# Altium schematic symbol library lib_eps.SchLib: 181 symbols (part 2 of 2)
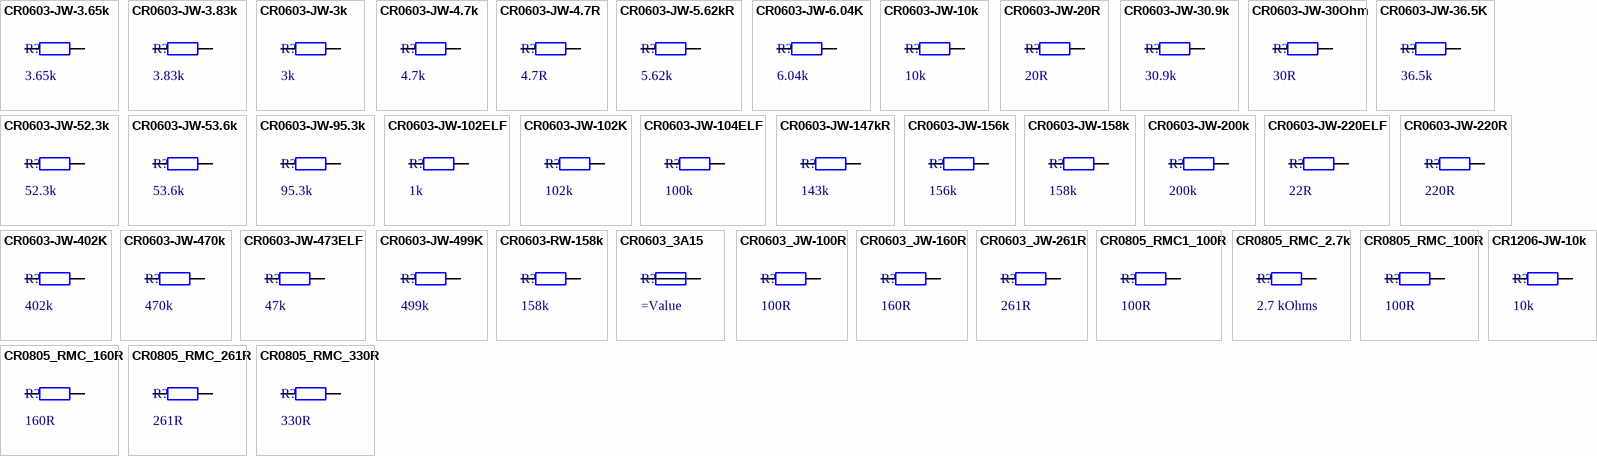
[diagram p7: symbols CR0603-JW-3.65k to CR1206-JW-10k]

## CR0805_RMC1_100R
designator R?, comment 100R
RES 100 OHM 1% 1/8W 0805; Manufacturer: Stackpole Electronics Inc; Manufacturer Part Number: RMCF0805FT100R; Value: 100R; Tolarance: ±1%; Supplier 1: Digi-Key; Supplier Part Number 1: RMCF0805FT100RCT-ND
footprint C0805_IPC_HD (Chip Capacitor, 2-Leads, Body 2,00x1,25mm, IPC High Density)
footprint C0805_IPC_MD (Chip Capacitor, 2-Leads, Body 2,00x1,25mm, IPC Medium Density)
footprint R0805_IPC_MD (Chip Resistor, 2-Leads, Body 2,00x1,25mm, IPC Medium Density)
pins: 1, 2

## CR0805_RMC_2.7k
designator R?, comment 2.7 kOhms
RES 2.7K OHM 1% 1/8W 0805; Manufacturer: Stackpole Electronics Inc; Manufacturer Part Number: RMCF0805FT2K70; Value: 2.7 kOhms; Tolarance: 1%; Supplier 1: Digi-Key; Supplier Part Number 1: RMCF0805FT2K70CT-ND
footprint C0805_IPC_HD (Chip Capacitor, 2-Leads, Body 2,00x1,25mm, IPC High Density)
footprint C0805_IPC_MD (Chip Capacitor, 2-Leads, Body 2,00x1,25mm, IPC Medium Density)
pins: 1, 2

## CR0805_RMC_100R
designator R?, comment 100R
RES SMD 100 OHM 5% 1/8W 0805; Manufacturer: Bourns Inc.; Manufacturer Part Number: CR0805-JW-101ELF; Value: 100R; Tolarance: ±5%; Supplier 1: Digi-Key; Supplier Part Number 1: CR0805-JW-101ELFCT-ND
footprint C0805_IPC_HD (Chip Capacitor, 2-Leads, Body 2,00x1,25mm, IPC High Density)
footprint C0805_IPC_MD (Chip Capacitor, 2-Leads, Body 2,00x1,25mm, IPC Medium Density)
pins: 1, 2

## CR0805_RMC_160R
designator R?, comment 160R
RES SMD 160 OHM 1% 1/8W 0805; Manufacturer: Rohm Semiconductor; Manufacturer Part Number: MCR10ERTF1600; Value: 160R; Tolarance: 1%; Supplier 1: Digi-Key; Supplier Part Number 1: RHM160CHCT-ND
footprint C0805_IPC_HD (Chip Capacitor, 2-Leads, Body 2,00x1,25mm, IPC High Density)
footprint C0805_IPC_MD (Chip Capacitor, 2-Leads, Body 2,00x1,25mm, IPC Medium Density)
pins: 1, 2

## CR0805_RMC_261R
designator R?, comment 261R
RES SMD 261 OHM 1% 1/8W 0805; Manufacturer: Rohm Semiconductor; Manufacturer Part Number: MCR10ERTF2610; Value: 261R; Tolarance: 1%; Supplier 1: Digi-Key; Supplier Part Number 1: RHM261CHCT-ND
footprint C0805_IPC_HD (Chip Capacitor, 2-Leads, Body 2,00x1,25mm, IPC High Density)
footprint C0805_IPC_MD (Chip Capacitor, 2-Leads, Body 2,00x1,25mm, IPC Medium Density)
pins: 1, 2

## CR0805_RMC_330R
designator R?, comment 330R
RES 330 OHM 1% 1/8W 0805; Manufacturer: Stackpole Electronics Inc; Manufacturer Part Number: RMCF0805FT330R; Value: 330R; Tolarance: 1%; Supplier 1: Digi-Key; Supplier Part Number 1: RMCF0805FT330RCT-ND
footprint C0805_IPC_HD (Chip Capacitor, 2-Leads, Body 2,00x1,25mm, IPC High Density)
footprint C0805_IPC_MD (Chip Capacitor, 2-Leads, Body 2,00x1,25mm, IPC Medium Density)
pins: 1, 2

## CR1206-JW-10k
designator R?, comment 10k
RES SMD 10K OHM 5% 1/4W 1206; Manufacturer: Bourns Inc.; Manufacturer Part Number: CR1206-JW-103ELF; Value: 10k; Tolarance: ±5%; Supplier 1: Digi-Key; Supplier Part Number 1: CR1206-JW-103ELFCT-ND
footprint C1206_IPC_HD (Chip Capacitor, 2-Leads, Body 3,20x1,60mm, IPC High Density)
footprint C1206_IPC_MD (Chip Capacitor, 2-Leads, Body 3,20x1,60mm, IPC Medium Density)
pins: 1, 2

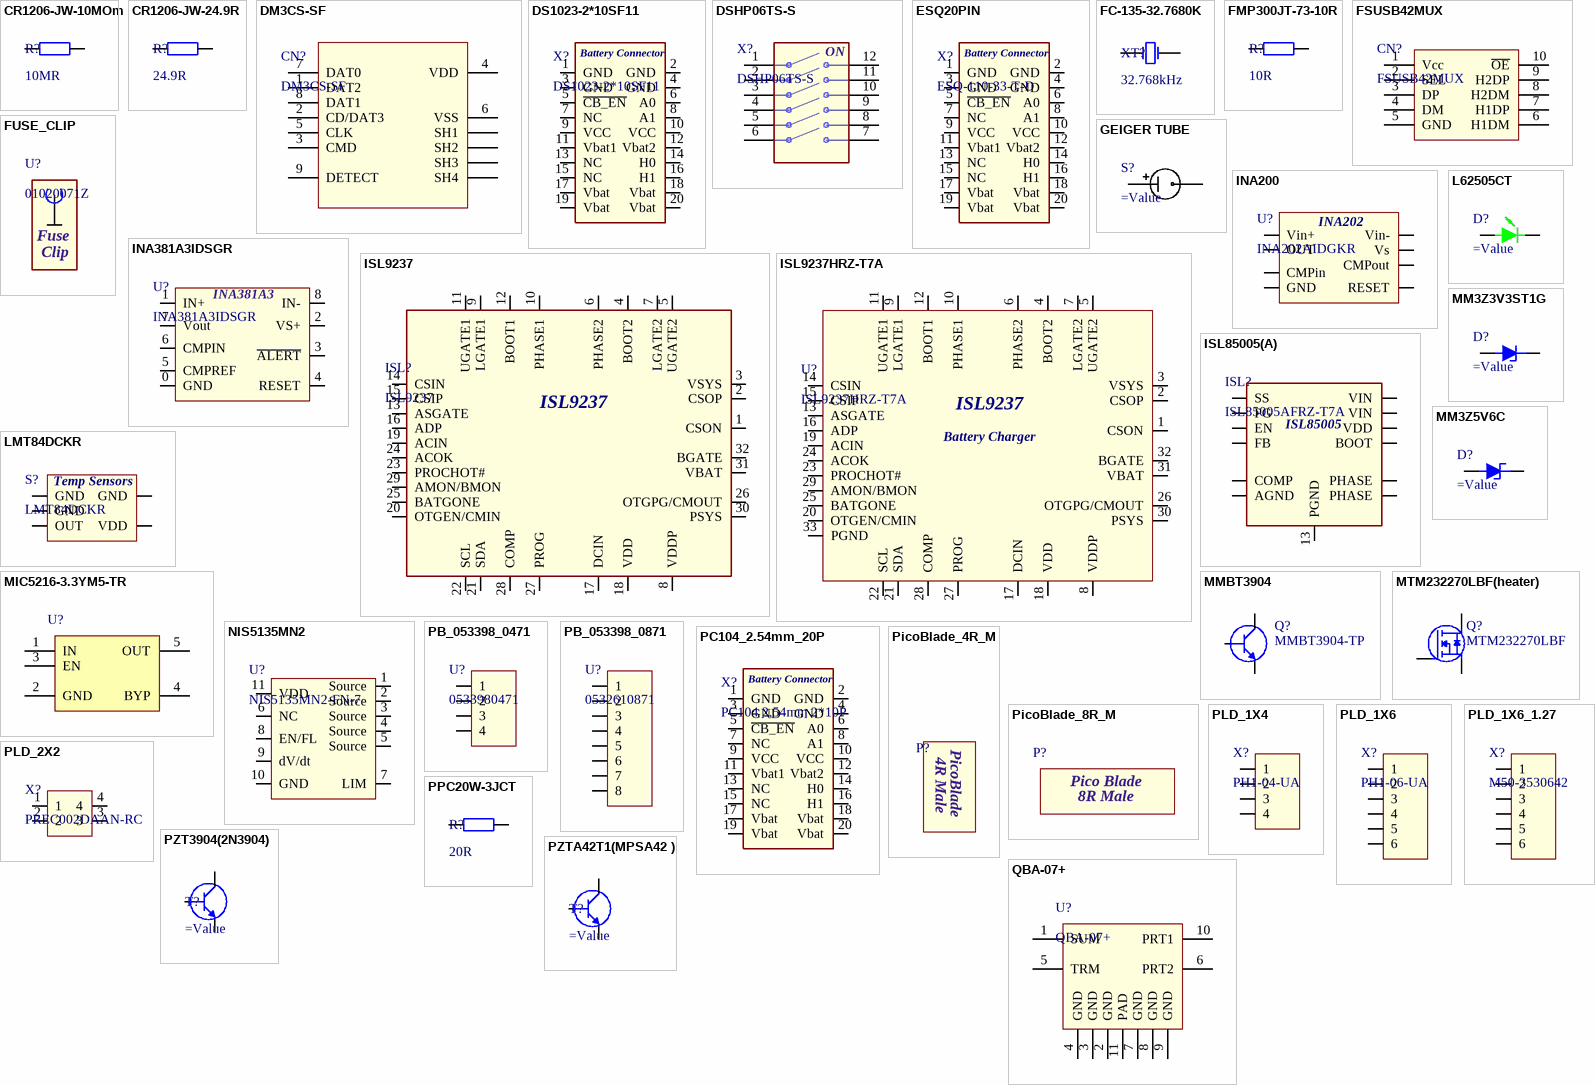
[diagram p4: symbols CR1206-JW-10MOm to QBA-07+]

## CR1206-JW-10MOm
designator R?, comment 10MR
RES SMD 10M OHM 5% 1/4W 1206; Manufacturer: Bourns Inc.; Manufacturer Part Number: CR1206-JW-106ELF; Value: 10MR; Tolarance: ±5%; Supplier 1: Digi-Key; Supplier Part Number 1: CR1206-JW-106ELFCT-ND
footprint C1206_IPC_HD (Chip Capacitor, 2-Leads, Body 3,20x1,60mm, IPC High Density)
footprint C1206_IPC_MD (Chip Capacitor, 2-Leads, Body 3,20x1,60mm, IPC Medium Density)
pins: 1, 2

## CR1206-JW-24.9R
designator R?, comment 24.9R
RES SMD 24.9 OHM 1% 1/4W 1206; Manufacturer: Rohm Semiconductor; Manufacturer Part Number: MCR18ERTF24R9; Value: 24.9R; Tolarance: ±1%; Supplier 1: Digi-Key; Supplier Part Number 1: RHM24.9CJCT-ND
footprint C1206_IPC_HD (Chip Capacitor, 2-Leads, Body 3,20x1,60mm, IPC High Density)
pins: 1, 2

## DM3CS-SF
designator CN?
CONN MICRO SD CARD HINGED TYPE; Manufacturer: Hirose Electric Co Ltd; Manufacturer Part Number: DM3CS-SF; Supplier 1: Digi-Key; Supplier Part Number 1: HR1972CT-ND
footprint DM3CS-SF (CONN MICRO SD CARD HINGED TYPE)
pins: 1 DAT2, 2 CD/DAT3, 3 CMD, 4 VDD, 5 CLK, 6 VSS, 7 DAT0, 8 DAT1, 9 DETECT, SH1, SH2, SH3, SH4

## DS1023-2*10SF11
designator X?
20 Position Elevated Socket Connector  Through Hole; Manufacturer: CONNFLY Elec; Number of Positions: 20; Manufacturer Part Number: DS1023-2*10SF11; Supplier 1: lcsc.com; Supplier Part Number 1: C92266
footprint ESQ-110-33-T-D (CONN SOCKET 20POS 0.1 TIN PCB)
pins: 1 GND, 2 GND, 3 GND, 4 GND, 5 ~{CB_EN}, 6 A0, 7 NC, 8 A1, 9 VCC, 10 VCC, 11 Vbat1, 12 Vbat2, 13 NC, 14 H0, 15 NC, 16 H1, 17 Vbat, 18 Vbat, 19 Vbat, 20 Vbat
text: Battery Connector

## DSHP06TS-S
designator X?
SPST 6 1.27mm, Half Slide (Standard) Black SMD DIP Switches RoHS; Manufacturer: XKB Enterprise; Manufacturer Part Number: DSHP06TS-S; Supplier 1: lcsc.com; Supplier Part Number 1: C319048
footprint SOIC_SW_SOIC127P850X235-12N (SOIC, 12-Leads, Body 9,22x5,35mm, Pitch 1,27mm, IPC Medium Density)
pins: 1, 2, 3, 4, 5, 6, 7, 8, 9, 10, 11, 12
text: ON

## ESQ20PIN
designator X?, comment ESQ-110-33-T-D
20 Position Elevated Socket Connector  Through Hole; Manufacturer: Samtec Inc.; Number of Positions: 20; Manufacturer Part Number: ESQ-110-33-T-D; Supplier 1: Digi-Key; Supplier Part Number 1: SAM11098-ND
footprint ESQ-110-33-T-D (CONN SOCKET 20POS 0.1 TIN PCB)
pins: 1 GND, 2 GND, 3 GND, 4 GND, 5 ~{CB_EN}, 6 A0, 7 NC, 8 A1, 9 VCC, 10 VCC, 11 Vbat1, 12 Vbat2, 13 NC, 14 H0, 15 NC, 16 H1, 17 Vbat, 18 Vbat, 19 Vbat, 20 Vbat
text: Battery Connector

## FC-135-32.7680K
designator XT?, comment 32.768kHz
32.768kHz ±20ppm Crystal 12.5pF 70 kOhms 2-SMD, No Lead; Manufacturer: EPSON; Manufacturer Part Number: FC-135 32.7680KA-A5; Frequency: 32.768kHz; Tolarance: ±20ppm; Supplier 1: Digi-Key; Supplier Part Number 1: SER4103CT-ND
footprint FC-135R (FC-135 32.7680KA-A5.FC-135 32.7680KA-A5)
pins: 1 OSC1, 2 OSC2

## FMP300JT-73-10R
designator R?, comment 10R
RES 10 OHM 3W 5% AXIAL; Manufacturer: Yageo; Manufacturer Part Number: FMP300JT-73-10R; Value: 10R; Tolarance: ±5%; Supplier 1: Digi-Key; Supplier Part Number 1: 10AXCT-ND
footprint FMP300JT-73-10R (RES 10 OHM 3W 5% AXIAL)
pins: 1, 2

## FSUSB42MUX
designator CN?
IC USB SWITCH DPDT 10MSOP; Manufacturer: ON Semiconductor; Manufacturer Part Number: FSUSB42MUX; Supplier 1: Digi-Key; Supplier Part Number 1: FSUSB42MUXCT-ND
footprint MSOP-10 (TSSOP, 10-Leads, Body 3.00x3.00mm, Pitch 0.50mm, IPC High Density)
pins: 1 Vcc, 2 SEL, 3 DP, 4 DM, 5 GND, 6 H1DM, 7 H1DP, 8 H2DM, 9 H2DP, 10 ~{OE}

## FUSE_CLIP
designator U?, comment 01020071Z  (mechanical)
FUSE CLIP; Manufacturer: Littelfuse Inc.; Manufacturer Part Number: 01020071Z; Supplier 1: Digi-Key; Supplier Part Number 1: F3781-ND
text: Fuse; Clip

## GEIGER TUBE
designator S?
FUSE CLIP CARTRIDGE PCB (FOR GEIGER TUBE); Manufacturer: USSR; Manufacturer Part Number: SI-3BG; Supplier 1: Kharkiv; Supplier Part Number 1: SI-3BG
footprint SI-3BG (Geiger tube 400V)
footprint SBM-20 (Geiger tube 400V)
pins: 1, 2

## INA200
designator U?, comment INA202AIDGKR
IC CURRENT MONITOR 3.5% 8VSSOP; Manufacturer: Texas Instruments; Manufacturer Part Number: INA202AIDGKR; Supplier 1: Digi-Key; Supplier Part Number 1: 296-21333-1-ND
footprint SOIC127P600-INA200
footprint TSOP65P490X110-8N-(INA202) (TSOP, 8-Leads, Body 3,00x3,00mm, Pitch 0,65mm, IPC Medium Density)
pins: 1 Vs, 2 OUT, 3 CMPin, 4 GND, 5 RESET, 6 CMPout, 7 Vin-, 8 Vin+
text: INA202

## INA381A3IDSGR
designator U?
Current Sense Regulator High/Low-Side  8-WSON (2x2); Manufacturer: Texas Instruments; Manufacturer Part Number: INA381A3IDSGR; Supplier 1: Digi-Key; Supplier Part Number 1: 296-50476-1-ND
footprint SON127P600-8N(INA381)
pins: 0 GND, 1 IN+, 2 VS+, 3 ~{ALERT}, 4 RESET, 5 CMPREF, 6 CMPIN, 7 Vout, 8 IN-
text: INA381A3

## ISL9237
designator ISL?
Buck-Boost Narrow VDC Battery Charger with SMBus Interface
footprint QFN127P600-ISL9237
pins: 1 CSON, 2 CSOP, 3 VSYS, 4 BOOT2, 5 UGATE2, 6 PHASE2, 7 LGATE2, 8 VDDP, 9 LGATE1, 10 PHASE1, 11 UGATE1, 12 BOOT1, 13 ASGATE, 14 CSIN, 15 CSIP, 16 ADP, 17 DCIN, 18 VDD, 19 ACIN, 20 OTGEN/CMIN, 21 SDA, 22 SCL, 23 PROCHOT#, 24 ACOK, 25 BATGONE, 26 OTGPG/CMOUT, 27 PROG, 28 COMP, 29 AMON/BMON, 30 PSYS, 31 VBAT, 32 BGATE

## ISL9237HRZ-T7A
designator U?
Charger IC Lithium-Ion 32-QFN (4x4); Manufacturer: Renesas Electronics America Inc.; Manufacturer Part Number: ISL9237HRZ-T7A; Supplier 1: Digi-Key; Supplier Part Number 1: ISL9237HRZ-T7ACT-ND
footprint QFN127P600-ISL9237
pins: 1 CSON, 2 CSOP, 3 VSYS, 4 BOOT2, 5 UGATE2, 6 PHASE2, 7 LGATE2, 8 VDDP, 9 LGATE1, 10 PHASE1, 11 UGATE1, 12 BOOT1, 13 ASGATE, 14 CSIN, 15 CSIP, 16 ADP, 17 DCIN, 18 VDD, 19 ACIN, 20 OTGEN/CMIN, 21 SDA, 22 SCL, 23 PROCHOT#, 24 ACOK, 25 BATGONE, 26 OTGPG/CMOUT, 27 PROG, 28 COMP, 29 AMON/BMON, 30 PSYS, 31 VBAT, 32 BGATE, 33 PGND
text: ISL9237; Battery Charger

## ISL85005(A)
designator ISL?, comment ISL85005AFRZ-T7A
Buck Switching Regulator IC Positive Adjustable 5V; Manufacturer: Renesas Electronics America Inc.; Manufacturer Part Number: ISL85005AFRZ-T7A; Supplier 1: Digi-Key; Supplier Part Number 1: ISL85005AFRZ-T7ACT-ND
footprint QFN127P600_ISL85005
pins: 1 SS, 2 PG, 3 EN, 4 FB, 5 COMP, 6 AGND, 7 PHASE, 8 PHASE, 9 VIN, 10 VIN, 11 VDD, 12 BOOT, 13 PGND
text: ISL85005

## L62505CT
designator D?
Green  LED Indication - Discrete 2.1V 0805 (ISL9237); Manufacturer: Visual Communications Company - VCC; Manufacturer Part Number: CMD17-21VGD/TR8; Current - Test: 20mA; Voltage - Forward (Vf) (Typ): 2.1V; Supplier 1: Digi-Key; Supplier Part Number 1: L62505CT-ND
footprint C0805_LED (Chip Capacitor, 2-Leads, Body 2,00x1,25mm, IPC Medium Density)
pins: 1 A, 2 K

## LMT84DCKR
designator S?
Temperature Sensor Analog, Local -50°C ~ 150°C 5.5mV/°C SC-70-5; Manufacturer: Texas Instruments; Manufacturer Part Number: LMT84DCKR; Supplier 1: Digi-Key; Supplier Part Number 1: 296-38163-1-ND
footprint LMT84DCKR_SOT65P210X110-5N (SOT23, 5-Leads, Body 2,00x2,10mm, Pitch 0,65mm, IPC Medium Density)
pins: 1 GND, 2 GND, 3 OUT, 4 VDD, 5 GND
text: Temp Sensors

## MIC5216-3.3YM5-TR
designator U?  (value not drawn)
IC REG LINEAR 3.3V 500MA SOT23-5; Manufacturer: Microchip Technology; Manufacturer Part Number: MIC5216-3.3YM5-TR; Supplier 1: Digi-Key; Supplier Part Number 1: 576-2756-1-ND
footprint SOT23-5_(MT) (SOT23, 5-Leads, Body 2,90x2,80mm, Pitch 0,95mm, IPC Medium Density)
pins: 1 IN, 2 GND, 3 EN, 4 BYP, 5 OUT

## MM3Z3V3ST1G
designator D?
Zener Diode 3.3V 300mW ±3% Surface Mount SOD-323; Manufacturer: ON Semiconductor; Manufacturer Part Number: MM3Z3V3ST1G; Voltage - Zener (Nom) (Vz): 3V3; Reverse Recovery Time (trr): 250ns; Supplier 1: Digi-Key; Supplier Part Number 1: MM3Z3V3ST1GOSCT-ND
footprint MM3Z5V6C _DIOM1713X10N (Molded Diode, 2-Leads, Body 1,70x1,30mm, IPC Medium Density)
pins: 1, 2

## MM3Z5V6C
designator D?
DIODE ZENER 5.6V 200MW SOD323F; Manufacturer: ON Semiconductor; Manufacturer Part Number: MM3Z5V6C; Current - Reverse Leakage @ Vr: 900nA; Voltage - Zener (Nom) (Vz): 5.6V; Supplier 1: Digi-Key; Supplier Part Number 1: MM3Z5V6CCT-ND
footprint MM3Z5V6C _DIOM1713X10N (Molded Diode, 2-Leads, Body 1,70x1,30mm, IPC Medium Density)
pins: 1, 2

## MMBT3904
designator Q?, comment MMBT3904-TP
NPN General Purpose Transistor; Manufacturer: Micro Commercial Co; Manufacturer Part Number: MMBT3904-TP; Supplier 1: Digi-Key; Supplier Part Number 1: MMBT3904TPMSCT-ND
footprint SOT23_MMBT3904 (SOT23, 3-Leads, Body 2,92x2,37mm, Pitch 1,00mm, IPC Medium Density)
pins: 1 B, 2 E, 3 C

## MTM232270LBF(heater)
designator Q?, comment MTM232270LBF
N-Channel 20V 2A (Ta) 500mW (Ta) Surface Mount SMini3-G1-B; Manufacturer: Panasonic Electronic Components; Manufacturer Part Number: MTM232270LBF; Supplier 1: Digi-Key; Supplier Part Number 1: MTM232270LBFCT-ND
footprint MTM232270LBF_SOT65P210X100-3N (SOT23, 3-Leads, Body 2,00x2,10mm, Pitch 0,65mm, IPC Medium Density)
pins: 1 G, 2 S, 3 D

## NIS5135MN2
designator U?, comment NIS5135MN2-FN-7
Electronic Fuse Regulator High-Side 3.6A U-DFN3030-10; Manufacturer: Diodes Incorporated; Manufacturer Part Number: NIS5135MN2-FN-7; Supplier 1: Digi-Key; Supplier Part Number 1: NIS5135MN2-FN-7DICT-ND
footprint NIS5135_SON127P600-8N
pins: 1 Source, 2 Source, 3 Source, 4 Source, 5 Source, 6 NC, 7 LIM, 8 EN/FL, 9 dV/dt, 10 GND, 11 VDD

## PB_053398_0471
designator U?, comment 0533980471
Connector Header Surface Mount 4 position 0.049" (1.25mm); Manufacturer: Molex; Manufacturer Part Number: 0533980471; Supplier 1: Digi-Key; Supplier Part Number 1: WM7608TR-ND
footprint PB_53261-0471
footprint PB_53261-0471_Right
pins: 1, 2, 3, 4

## PB_053398_0871
designator U?, comment 0532610871
Connector Header Surface Mount, Right Angle 8 position 0.049" (1.25mm); Manufacturer: Molex; Manufacturer Part Number: 0532610871; Supplier 1: Digi-Key; Supplier Part Number 1: WM7626CT-ND
footprint PB_53398-0871 (Headers & Wire Housings 1.25MM HDR 8 CKT Right-Angle)
pins: 1, 2, 3, 4, 5, 6, 7, 8

## PC104_2.54mm_20P
designator X?, comment PC104 2,54mm 2*10P
20 Position Elevated Socket Connector  Through Hole; Manufacturer: China; Number of Positions: 20; Manufacturer Part Number: PC104 2,54mm 2*10P; Supplier 1: Aliexpress.com; Supplier Part Number 1: PC104 2,54mm 2*10P
footprint ESQ-110-33-T-D (CONN SOCKET 20POS 0.1 TIN PCB)
footprint PC104_2.54MM_20P (CONN SOCKET 20POS 0.1 TIN PCB)
pins: 1 GND, 2 GND, 3 GND, 4 GND, 5 ~{CB_EN}, 6 A0, 7 NC, 8 A1, 9 VCC, 10 VCC, 11 Vbat1, 12 Vbat2, 13 NC, 14 H0, 15 NC, 16 H1, 17 Vbat, 18 Vbat, 19 Vbat, 20 Vbat
text: Battery Connector

## PicoBlade_4R_M
designator P?, comment PicoBlade_4R_MALE  (value not drawn)  (mechanical)
MALE Connector Header Surface Mount 4 position 0.049" (1.25mm); Manufacturer: China; Manufacturer Part Number: PicoBlade_4R_MALE; Supplier 1: Aliexpress; Supplier Part Number 1: PicoBlade_4R_M
text: PicoBlade; 4R Male

## PicoBlade_8R_M
designator P?, comment PicoBlade_8R_MALE  (value not drawn)  (mechanical)
MALE Connector Header Surface Mount, Right Angle 8 position 0.049" (1.25mm); Manufacturer: China; Manufacturer Part Number: PicoBlade_8R_MALE; Supplier 1: Aliexpress; Supplier Part Number 1: PicoBlade_8R_M
text: Pico Blade; 8R Male

## PLD_1X4
designator X?, comment PH1-04-UA
PIN HEADER 4P 2.54MM PITCH PLUG; Manufacturer: Adam Tech; Number of Positions: 4; Manufacturer Part Number: PH1-04-UA; Supplier 1: Digi-Key; Supplier Part Number 1: 2057-PH1-04-UA-ND
footprint PLS_1X4 (CONN SOCKET 20POS 0.1 TIN PCB)
pins: 1, 2, 3, 4

## PLD_1X6
designator X?, comment PH1-06-UA
PIN HEADER 6P 2.54MM PITCH PLUG; Manufacturer: Adam Tech; Number of Positions: 6; Manufacturer Part Number: PH1-06-UA; Supplier 1: Digi-Key; Supplier Part Number 1: 2057-PH1-06-UA-ND
footprint PLS_1X6 (CONN SOCKET 20POS 0.1 TIN PCB)
pins: 1, 2, 3, 4, 5, 6

## PLD_1X6_1.27
designator X?, comment M50-3530642
CONN HEADER VERT 6POS 1.27MM; Manufacturer: Harwin Inc.; Number of Positions: 6; Manufacturer Part Number: M50-3530642; Supplier 1: Digi-Key; Supplier Part Number 1: 952-3602-ND
footprint PLS_1X6_1.27 (3.10mm, 4.60mm, 5.40mm)
pins: 1, 2, 3, 4, 5, 6

## PLD_2X2
designator X?, comment PREC002DAAN-RC
Connector Header Through Hole 4 position 0.100" (2.54mm); Manufacturer: Sullins Connector Solutions; Number of Positions: 4; Manufacturer Part Number: PREC002DAAN-RC; Supplier 1: Digi-Key; Supplier Part Number 1: S2012EC-02-ND
footprint PLD_2X2 (CONN SOCKET 20POS 0.1 TIN PCB)
footprint GPLD_2X2 (CONN SOCKET 20POS 0.1 TIN PCB)
pins: 1, 2, 3, 4

## PPC20W-3JCT
designator R?, comment 20R
RES 20 OHM 3W 5% AXIAL; Manufacturer: Vishay BC Components; Manufacturer Part Number: PR03000202009JAC00; Value: 20R; Tolarance: ±5%; Supplier 1: Digi-Key; Supplier Part Number 1: PPC20W-3JCT-ND
footprint PPC20W-3JCT-ND (RES 20 OHM 3W 5% AXIAL)
pins: 1, 2

## PZT3904(2N3904)
designator T?
Bipolar (BJT) Transistor NPN 40V 200mA 300MHz 1.5W Surface Mount SOT-223; Manufacturer: ON Semiconductor; Manufacturer Part Number: PZT3904T1G; Current - Collector (Ic) (Max): 200mA; Voltage - Collector Emitter Breakdown (Max): 40V; Supplier 1: Digi-Key; Supplier Part Number 1: PZT3904T1GOSCT-ND
footprint PZT3904_SOT223
pins: 1 B, 2 C, 3 E

## PZTA42T1(MPSA42 )
designator T?
Bipolar (BJT) Transistor NPN 300V 500mA 50MHz 1.5W Surface Mount SOT-223; Manufacturer: ON Semiconductor; Manufacturer Part Number: PZTA42T1G; Current - Collector (Ic) (Max): 500mA; Voltage - Collector Emitter Breakdown (Max): 300V; Supplier 1: Digi-Key; Supplier Part Number 1: PZTA42T1GOSCT-ND
footprint PZTA42T1G_SOT230P (SOT223, 4-Leads, Body 6,50x7,00mm (avg), Pitch 2,30mm, IPC Medium Density)
pins: 1 B, 2 C, 3 E

## QBA-07+
designator U?
Power Splitter/Combiner 2 Way-90° 50Ω 340 to 680 MHz; Manufacturer: Mini-Circuits®; Manufacturer Part Number: QBA-07+; Supplier 1: *****; Supplier Part Number 1: *****
footprint QBA-07+
pins: 1 SUM, 2 GND, 3 GND, 4 GND, 5 TRM, 6 PRT2, 7 GND, 8 GND, 9 GND, 10 PRT1, 11 PAD

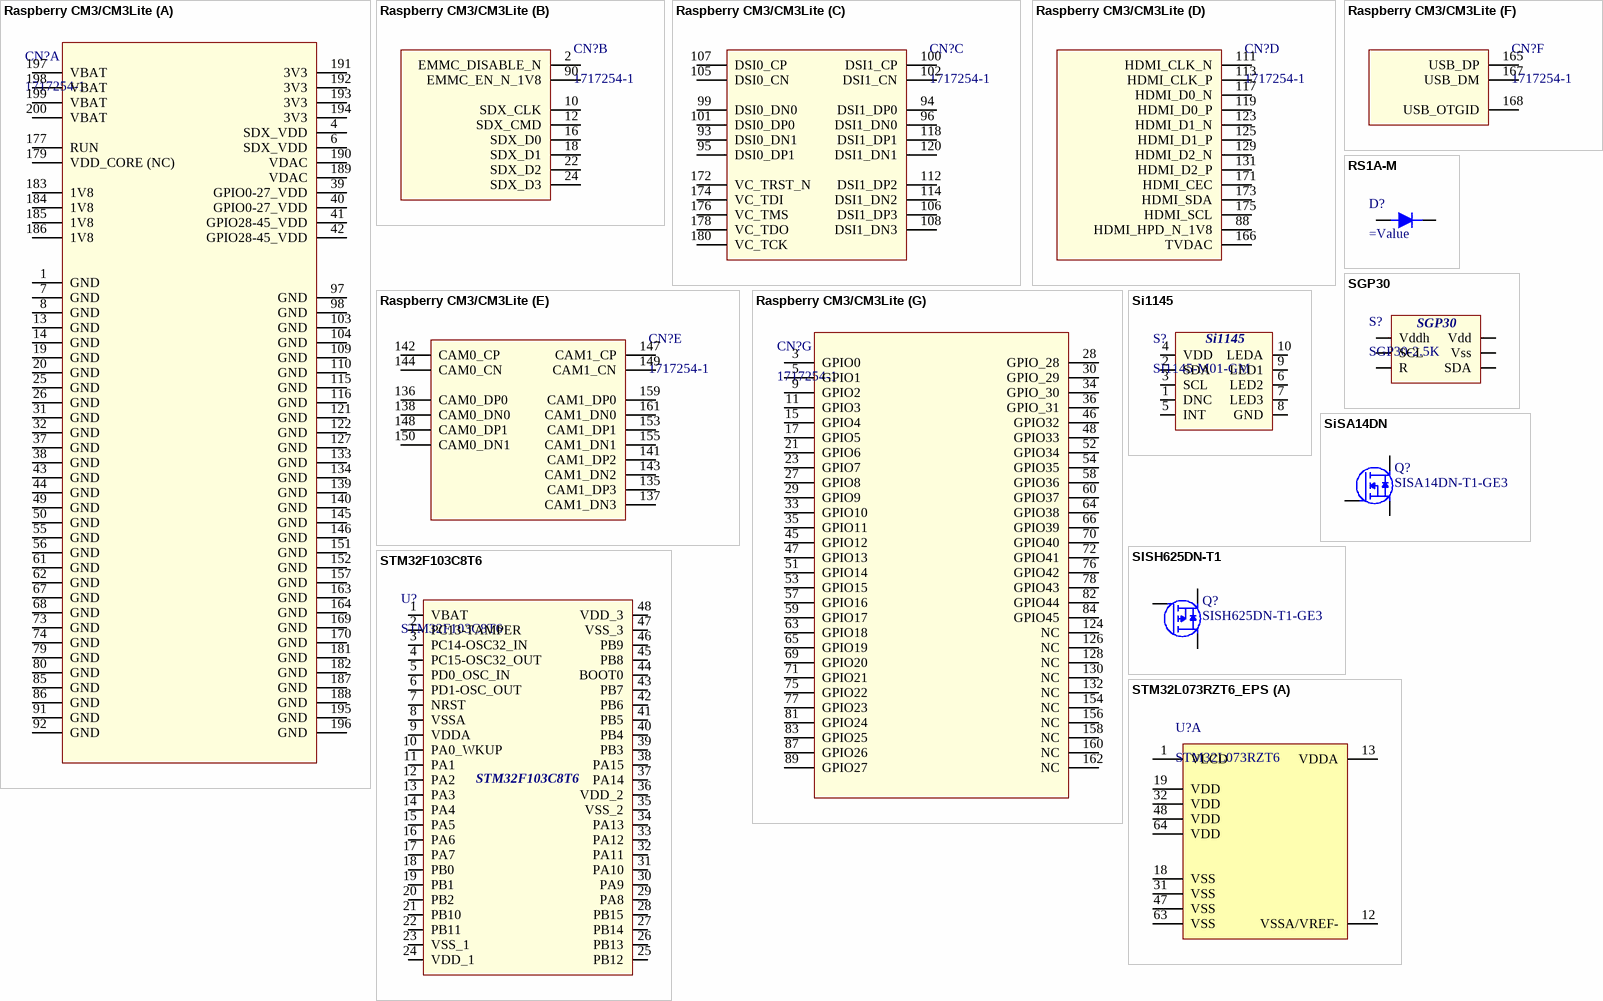
[diagram p5: symbols Raspberry CM3/CM3Lite to STM32L073RZT6_EPS]

## Raspberry CM3/CM3Lite
designator CN?, comment 1717254-1
CONN SKT SODIMM 200POS R/A SMD; Manufacturer: On Shore Technology Inc.; Manufacturer Part Number: 1717254-1; Supplier 1: Digi-Key; Supplier Part Number 1: A111047CT-ND
footprint 1717254-1 (CONN SKT SODIMM 200POS R/A SMD)
footprint 1717254-1 + CM3 (CONN SKT SODIMM 200POS R/A SMD)
part A pins: 1 GND, 4 SDX_VDD, 6 SDX_VDD, 7 GND, 8 GND, 13 GND, 14 GND, 19 GND, 20 GND, 25 GND, 26 GND, 31 GND, 32 GND, 37 GND, 38 GND, 39 GPIO0-27_VDD, 40 GPIO0-27_VDD, 41 GPIO28-45_VDD, 42 GPIO28-45_VDD, 43 GND, 44 GND, 49 GND, 50 GND, 55 GND, 56 GND, 61 GND, 62 GND, 67 GND, 68 GND, 73 GND, 74 GND, 79 GND, 80 GND, 85 GND, 86 GND, 91 GND, 92 GND, 97 GND, 98 GND, 103 GND, 104 GND, 109 GND, 110 GND, 115 GND, 116 GND, 121 GND, 122 GND, 127 GND, 133 GND, 134 GND, 139 GND, 140 GND, 145 GND, 146 GND, 151 GND, 152 GND, 157 GND, 163 GND, 164 GND, 169 GND, 170 GND, 177 RUN, 179 VDD_CORE (NC), 181 GND, 182 GND, 183 1V8, 184 1V8, 185 1V8, 186 1V8, 187 GND, 188 GND, 189 VDAC, 190 VDAC, 191 3V3, 192 3V3, 193 3V3, 194 3V3, 195 GND, 196 GND, 197 VBAT, 198 VBAT, 199 VBAT, 200 VBAT
part B pins: 2 EMMC_DISABLE_N, 10 SDX_CLK, 12 SDX_CMD, 16 SDX_D0, 18 SDX_D1, 22 SDX_D2, 24 SDX_D3, 90 EMMC_EN_N_1V8
part C pins: 93 DSI0_DN1, 94 DSI1_DP0, 95 DSI0_DP1, 96 DSI1_DN0, 99 DSI0_DN0, 100 DSI1_CP, 101 DSI0_DP0, 102 DSI1_CN, 105 DSI0_CN, 106 DSI1_DP3, 107 DSI0_CP, 108 DSI1_DN3, 112 DSI1_DP2, 114 DSI1_DN2, 118 DSI1_DP1, 120 DSI1_DN1, 172 VC_TRST_N, 174 VC_TDI, 176 VC_TMS, 178 VC_TDO, 180 VC_TCK
part D pins: 88 HDMI_HPD_N_1V8, 111 HDMI_CLK_N, 113 HDMI_CLK_P, 117 HDMI_D0_N, 119 HDMI_D0_P, 123 HDMI_D1_N, 125 HDMI_D1_P, 129 HDMI_D2_N, 131 HDMI_D2_P, 166 TVDAC, 171 HDMI_CEC, 173 HDMI_SDA, 175 HDMI_SCL
part E pins: 135 CAM1_DP3, 136 CAM0_DP0, 137 CAM1_DN3, 138 CAM0_DN0, 141 CAM1_DP2, 142 CAM0_CP, 143 CAM1_DN2, 144 CAM0_CN, 147 CAM1_CP, 148 CAM0_DP1, 149 CAM1_CN, 150 CAM0_DN1, 153 CAM1_DP1, 155 CAM1_DN1, 159 CAM1_DP0, 161 CAM1_DN0
part F pins: 165 USB_DP, 167 USB_DM, 168 USB_OTGID
part G pins: 3 GPIO0, 5 GPIO1, 9 GPIO2, 11 GPIO3, 15 GPIO4, 17 GPIO5, 21 GPIO6, 23 GPIO7, 27 GPIO8, 28 GPIO_28, 29 GPIO9, 30 GPIO_29, 33 GPIO10, 34 GPIO_30, 35 GPIO11, 36 GPIO_31, 45 GPIO12, 46 GPIO32, 47 GPIO13, 48 GPIO33, 51 GPIO14, 52 GPIO34, 53 GPIO15, 54 GPIO35, 57 GPIO16, 58 GPIO36, 59 GPIO17, 60 GPIO37, 63 GPIO18, 64 GPIO38, 65 GPIO19, 66 GPIO39, 69 GPIO20, 70 GPIO40, 71 GPIO21, 72 GPIO41, 75 GPIO22, 76 GPIO42, 77 GPIO23, 78 GPIO43, 81 GPIO24, 82 GPIO44, 83 GPIO25, 84 GPIO45, 87 GPIO26, 89 GPIO27, 124 NC, 126 NC, 128 NC, 130 NC, 132 NC, 154 NC, 156 NC, 158 NC, 160 NC, 162 NC

## RS1A-M
designator D?
DIODE GEN PURP 600V 1A SMA; Manufacturer: ON Semiconductor; Manufacturer Part Number: RS1J; Reverse Recovery Time (trr): 250ns; Voltage - DC Reverse (Vr) (Max): 600V; Supplier 1: Digi-Key; Supplier Part Number 1: RS1JFSCT-ND; Current - Average Rectified (Io): 1A
footprint RS1J-DFN (DFN, 2-Leads, Body 2,67x4,25mm, Pitch 3,76mm, IPC Medium Density)
pins: 1, 2

## SGP30
designator S?, comment SGP30-2.5K
AIR QUALITY GAS SENSOR FOR VOC'S; Manufacturer: Sensirion AG; Manufacturer Part Number: SGP30-2.5K; Supplier 1: Digi-Key; Supplier Part Number 1: 1649-1084-1-ND
footprint QFN0P245X245X90_(SGP30) (QFN, 6-Leads, Body 2,45x2,45mm, Pitch 0,00mm/0,80mm, Thermal Pad 1,25x1,70mm, IPC Medium Density)
pins: 1 Vdd, 2 Vss, 3 SDA, 4 R, 5 Vddh, 6 SCL

## Si1145
designator S?, comment SI1145-M01-GM
Optical Sensor Ambient, IR, Ultraviolet (UV) 850nm I²C 10-SMD Module, No Lead; Manufacturer: Silicon Labs; Manufacturer Part Number: SI1145-M01-GM; Supplier 1: Digi-Key; Supplier Part Number 1: 336-5135-ND
footprint Si1145 (Optical Sensor Ambient, IR, Ultraviolet (UV) 850nm I?C 10-SMD Module, No Lead)
pins: 1 DNC, 2 SDA, 3 SCL, 4 VDD, 5 INT, 6 LED2, 7 LED3, 8 GND, 9 LED1, 10 LEDA

## SiSA14DN
designator Q?, comment SISA14DN-T1-GE3
N-Channel 30V 20A (Tc) 3.57W (Ta), 26.5W (Tc) Surface Mount PowerPAK® 1212-8; Manufacturer: Vishay Siliconix; Manufacturer Part Number: SISA14DN-T1-GE3; Supplier 1: Digi-Key; Supplier Part Number 1: SISA14DN-T1-GE3CT-ND
footprint SISA14DN (PowerPAK® 1212-8  N-Channel 30V 20A)
pins: 1 S, 2 G, 3 D

## SISH625DN-T1
designator Q?, comment SISH625DN-T1-GE3
P-Channel 30V 17.3A (Ta), 35A (Tc) 3.7W (Ta), 52W (Tc) Surface Mount PowerPAK® 1212-8SH; Manufacturer: Vishay Siliconix; Manufacturer Part Number: SISH625DN-T1-GE3; Supplier 1: Digi-Key; Supplier Part Number 1: SISH625DN-T1-GE3CT-ND
footprint SISH625DN (Mount PowerPAK® 1212-8SH P-Channel 30V 17.3A)
pins: 1 S, 2 G, 3 D

## STM32F103C8T6
designator U?
ARM® Cortex®-M3 STM32F1 Microcontroller IC 32-Bit 72MHz 64KB (64K x 8) FLASH; Manufacturer: STMicroelectronics; SRAM: 20K x 8; Manufacturer Part Number: STM32F103C8T6; FLASH: 64KB (64K x 8); Supplier 1: Digi-Key; Supplier Part Number 1: 497-6063-ND
footprint STM32F103C8T6_TSQFP50P900X900 (TSQFP, 48-Leads, Body 7,00x7,00mm, Pitch 0,50mm, IPC Medium Density)
pins: 1 VBAT, 2 PC13-TAMPER, 3 PC14-OSC32_IN, 4 PC15-OSC32_OUT, 5 PD0_OSC_IN, 6 PD1-OSC_OUT, 7 NRST, 8 VSSA, 9 VDDA, 10 PA0_WKUP, 11 PA1, 12 PA2, 13 PA3, 14 PA4, 15 PA5, 16 PA6, 17 PA7, 18 PB0, 19 PB1, 20 PB2, 21 PB10, 22 PB11, 23 VSS_1, 24 VDD_1, 25 PB12, 26 PB13, 27 PB14, 28 PB15, 29 PA8, 30 PA9, 31 PA10, 32 PA11, 33 PA12, 34 PA13, 35 VSS_2, 36 VDD_2, 37 PA14, 38 PA15, 39 PB3, 40 PB4, 41 PB5, 42 PB6, 43 PB7, 44 BOOT0, 45 PB8, 46 PB9, 47 VSS_3, 48 VDD_3

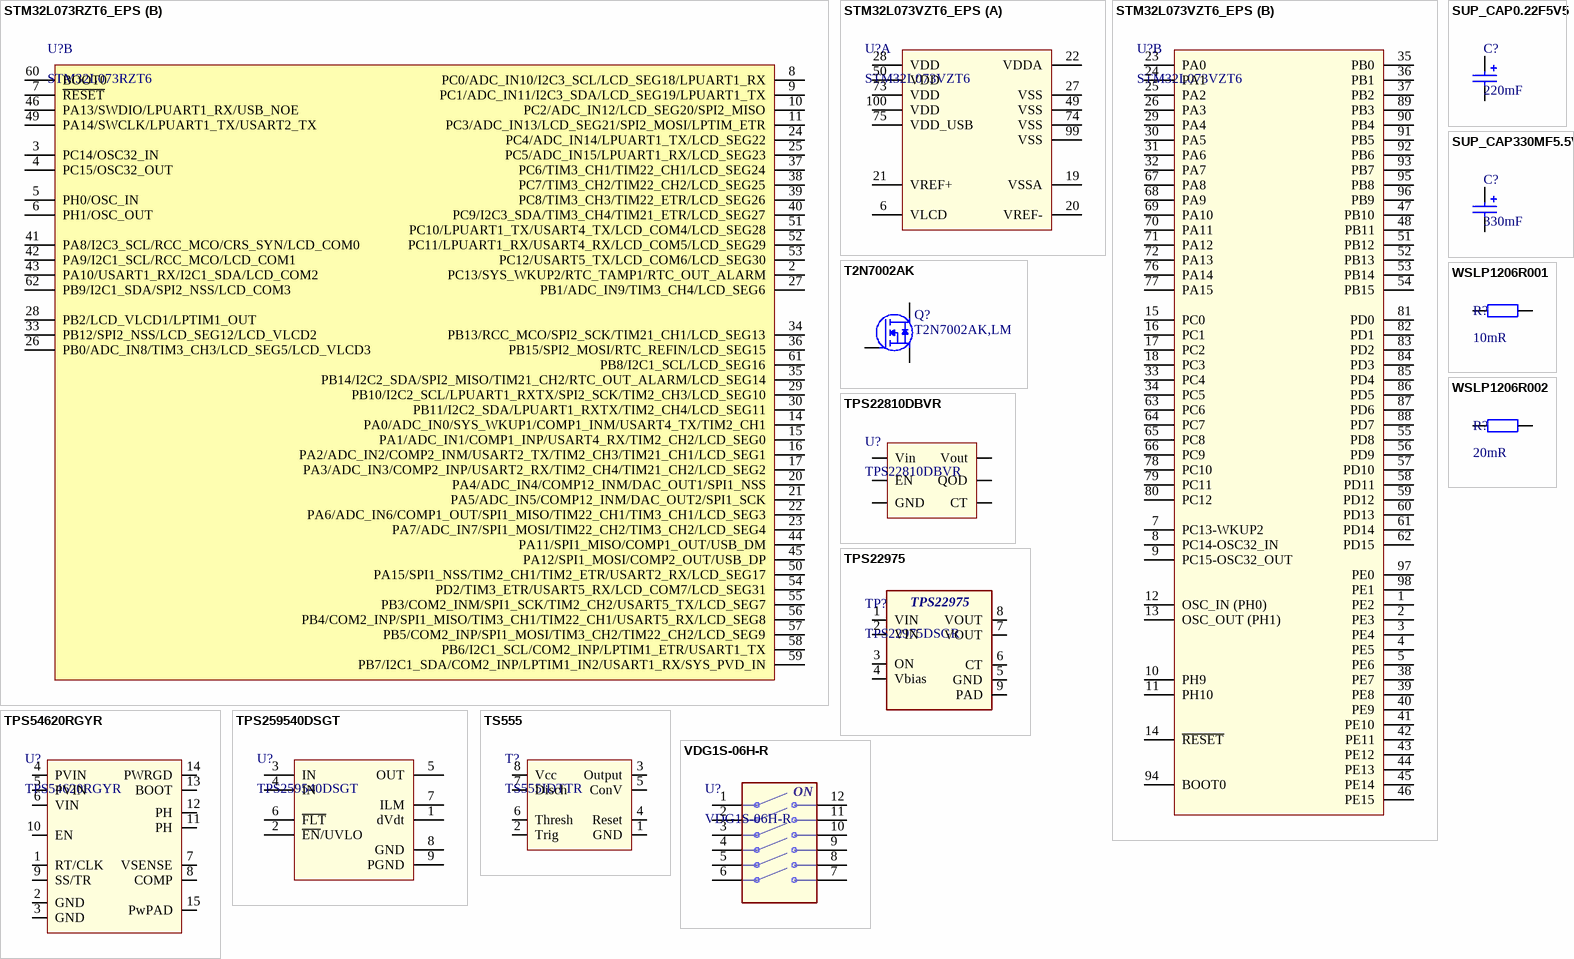
[diagram p6: symbols STM32L073RZT6_EPS to WSLP1206R002]

## STM32L073RZT6_EPS
designator U?, comment STM32L073RZT6
Ultra-low-power 32-bit MCU ARM®-based Cortex®-M0+; Manufacturer: ST; SRAM: 20KB; FLASH: 192KB; Manufacturer Part Number: STM32L073RZT6; Supplier 1: Digi-Key; Supplier Part Number 1: 497-16270-ND
footprint LQFP64_10X10MM (LQFP, 64-Leads, Body 10,00x10,00mm, Pitch 0,50mm, IPC Medium Density)
part A pins: 1 VLCD (power), 12 VSSA/VREF- (power), 13 VDDA (power), 18 VSS (power), 19 VDD (power), 31 VSS (power), 32 VDD (power), 47 VSS (power), 48 VDD (power), 63 VSS (power), 64 VDD (power)
part B pins: 2 PC13/SYS_WKUP2/RTC_TAMP1/RTC_OUT_ALARM, 3 PC14/OSC32_IN, 4 PC15/OSC32_OUT, 5 PH0/OSC_IN, 6 PH1/OSC_OUT, 7 ~{RESET}, 8 PC0/ADC_IN10/I2C3_SCL/LCD_SEG18/LPUART1_RX, 9 PC1/ADC_IN11/I2C3_SDA/LCD_SEG19/LPUART1_TX, 10 PC2/ADC_IN12/LCD_SEG20/SPI2_MISO, 11 PC3/ADC_IN13/LCD_SEG21/SPI2_MOSI/LPTIM_ETR, 14 PA0/ADC_IN0/SYS_WKUP1/COMP1_INM/USART4_TX/TIM2_CH1, 15 PA1/ADC_IN1/COMP1_INP/USART4_RX/TIM2_CH2/LCD_SEG0, 16 PA2/ADC_IN2/COMP2_INM/USART2_TX/TIM2_CH3/TIM21_CH1/LCD_SEG1, 17 PA3/ADC_IN3/COMP2_INP/USART2_RX/TIM2_CH4/TIM21_CH2/LCD_SEG2, 20 PA4/ADC_IN4/COMP12_INM/DAC_OUT1/SPI1_NSS, 21 PA5/ADC_IN5/COMP12_INM/DAC_OUT2/SPI1_SCK, 22 PA6/ADC_IN6/COMP1_OUT/SPI1_MISO/TIM22_CH1/TIM3_CH1/LCD_SEG3, 23 PA7/ADC_IN7/SPI1_MOSI/TIM22_CH2/TIM3_CH2/LCD_SEG4, 24 PC4/ADC_IN14/LPUART1_TX/LCD_SEG22, 25 PC5/ADC_IN15/LPUART1_RX/LCD_SEG23, 26 PB0/ADC_IN8/TIM3_CH3/LCD_SEG5/LCD_VLCD3, 27 PB1/ADC_IN9/TIM3_CH4/LCD_SEG6, 28 PB2/LCD_VLCD1/LPTIM1_OUT, 29 PB10/I2C2_SCL/LPUART1_RXTX/SPI2_SCK/TIM2_CH3/LCD_SEG10, 30 PB11/I2C2_SDA/LPUART1_RXTX/TIM2_CH4/LCD_SEG11, 33 PB12/SPI2_NSS/LCD_SEG12/LCD_VLCD2, 34 PB13/RCC_MCO/SPI2_SCK/TIM21_CH1/LCD_SEG13, 35 PB14/I2C2_SDA/SPI2_MISO/TIM21_CH2/RTC_OUT_ALARM/LCD_SEG14, 36 PB15/SPI2_MOSI/RTC_REFIN/LCD_SEG15, 37 PC6/TIM3_CH1/TIM22_CH1/LCD_SEG24, 38 PC7/TIM3_CH2/TIM22_CH2/LCD_SEG25, 39 PC8/TIM3_CH3/TIM22_ETR/LCD_SEG26, 40 PC9/I2C3_SDA/TIM3_CH4/TIM21_ETR/LCD_SEG27, 41 PA8/I2C3_SCL/RCC_MCO/CRS_SYN/LCD_COM0, 42 PA9/I2C1_SCL/RCC_MCO/LCD_COM1, 43 PA10/USART1_RX/I2C1_SDA/LCD_COM2, 44 PA11/SPI1_MISO/COMP1_OUT/USB_DM, 45 PA12/SPI1_MOSI/COMP2_OUT/USB_DP, 46 PA13/SWDIO/LPUART1_RX/USB_NOE, 49 PA14/SWCLK/LPUART1_TX/USART2_TX, 50 PA15/SPI1_NSS/TIM2_CH1/TIM2_ETR/USART2_RX/LCD_SEG17, 51 PC10/LPUART1_TX/USART4_TX/LCD_COM4/LCD_SEG28, 52 PC11/LPUART1_RX/USART4_RX/LCD_COM5/LCD_SEG29, 53 PC12/USART5_TX/LCD_COM6/LCD_SEG30, 54 PD2/TIM3_ETR/USART5_RX/LCD_COM7/LCD_SEG31, 55 PB3/COM2_INM/SPI1_SCK/TIM2_CH2/USART5_TX/LCD_SEG7, 56 PB4/COM2_INP/SPI1_MISO/TIM3_CH1/TIM22_CH1/USART5_RX/LCD_SEG8, 57 PB5/COM2_INP/SPI1_MOSI/TIM3_CH2/TIM22_CH2/LCD_SEG9, 58 PB6/I2C1_SCL/COM2_INP/LPTIM1_ETR/USART1_TX, 59 PB7/I2C1_SDA/COM2_INP/LPTIM1_IN2/USART1_RX/SYS_PVD_IN, 60 BOOT0, 61 PB8/I2C1_SCL/LCD_SEG16, 62 PB9/I2C1_SDA/SPI2_NSS/LCD_COM3

## STM32L073VZT6_EPS
designator U?, comment STM32L073VZT6
ARM® Cortex®-M0+ STM32L0 Microcontroller IC 32-Bit 32MHz 192KB (192K x 8) FLASH 100-LQFP (14x14); Manufacturer: STMicroelectronics; SRAM: 20KB; Manufacturer Part Number: STM32L073VZT6; FLASH: 192KB; Supplier 1: Digi-Key; Supplier Part Number 1: 497-17508-ND
footprint STM32L073_TSQFP50P1600X1600X160-100N (TSQFP, 100-Leads, Body 14,00x14,00mm, Pitch 0,50mm, IPC Medium Density)
part A pins: 6 VLCD, 19 VSSA, 20 VREF-, 21 VREF+, 22 VDDA, 27 VSS, 28 VDD, 49 VSS, 50 VDD, 73 VDD, 74 VSS, 75 VDD_USB, 99 VSS, 100 VDD
part B pins: 1 PE2 (power), 2 PE3, 3 PE4, 4 PE5, 5 PE6, 7 PC13-WKUP2, 8 PC14-OSC32_IN , 9 PC15-OSC32_OUT , 10 PH9, 11 PH10, 12 OSC_IN (PH0), 13 OSC_OUT (PH1), 14 ~{RESET}, 15 PC0, 16 PC1, 17 PC2, 18 PC3, 23 PA0, 24 PA1, 25 PA2, 26 PA3, 29 PA4, 30 PA5, 31 PA6, 32 PA7, 33 PC4, 34 PC5, 35 PB0, 36 PB1, 37 PB2, 38 PE7, 39 PE8, 40 PE9, 41 PE10, 42 PE11, 43 PE12, 44 PE13, 45 PE14, 46 PE15, 47 PB10, 48 PB11, 51 PB12, 52 PB13, 53 PB14, 54 PB15, 55 PD8, 56 PD9, 57 PD10, 58 PD11, 59 PD12, 60 PD13, 61 PD14, 62 PD15, 63 PC6, 64 PC7, 65 PC8, 66 PC9, 67 PA8, 68 PA9, 69 PA10, 70 PA11, 71 PA12, 72 PA13, 76 PA14, 77 PA15, 78 PC10, 79 PC11, 80 PC12, 81 PD0, 82 PD1, 83 PD2, 84 PD3, 85 PD4, 86 PD5, 87 PD6, 88 PD7, 89 PB3, 90 PB4, 91 PB5, 92 PB6, 93 PB7, 94 BOOT0, 95 PB8, 96 PB9, 97 PE0, 98 PE1

## SUP_CAP0.22F5V5
designator C?, comment 220mF
220mF (EDLC) Supercapacitor 5.5V Axial, Can - Vertical 75 Ohm @ 1kHz 1000 Hrs @ 70°C; Manufacturer: Panasonic Electronic Components; Manufacturer Part Number: EEC-SE0H224N; Voltage: 5.5V; Value: 220mF; Supplier 1: Digi-Key; Supplier Part Number 1: P17040-ND
footprint EEC-SE0H224N (CAP .22F 5.5V T/H)
pins: 1, 2

## SUP_CAP330MF5.5V
designator C?, comment 330mF
330mF (EDLC) Supercapacitor 5.5V Axial, Can - Horizontal 75 Ohm @ 1kHz 1000 Hrs @ 70°C; Manufacturer: Panasonic Electronic Components; Manufacturer Part Number: EEC-S0HD334H; Voltage: 5.5V; Value: 330mF; Supplier 1: Digi-Key; Supplier Part Number 1: P11064-ND
footprint EEC-S0HD334H (CAP 330MF -20% +80% 5.5V T/H)
pins: 1, 2

## T2N7002AK
designator Q?, comment T2N7002AK,LM
N-Channel 60V 200mA (Ta) 320mW (Ta) Surface Mount SOT-23 (ISL9237); Manufacturer: Toshiba Semiconductor and Storage; Manufacturer Part Number: T2N7002AK,LM; Supplier 1: Digi-Key; Supplier Part Number 1: T2N7002AKLMCT-ND
footprint T2N7002AK_SOT95P240X100-3N (SOT23, 3-Leads, Body 2,90x2,40mm, Pitch 0,95mm, IPC Medium Density)
pins: 1 G, 2 S, 3 D

## TPS22810DBVR
designator U?
Power Switch/Driver 1:1 N-Channel 2A SOT-23-6; Manufacturer: Texas Instruments; Manufacturer Part Number: TPS22810DBVR; Supplier 1: Digi-Key; Supplier Part Number 1: 296-45297-1-ND
footprint TPS22810DBVR_SOT95P280X145-6N (SOT23, 6-Leads, Body 2,90x2,80mm, Pitch 0,95mm, IPC Medium Density)
pins: 1 Vin, 2 GND, 3 EN, 4 CT, 5 QOD, 6 Vout

## TPS22975
designator TP?, comment TPS22975DSGR
IC LOAD SWITCH N-CH 6A; Manufacturer: Texas Instruments; Manufacturer Part Number: TPS22975DSGR; Supplier 1: Digi-Key; Supplier Part Number 1: 296-47228-1-ND
footprint SON127P600-TPS22975
pins: 1 VIN, 2 VIN, 3 ON, 4 Vbias, 5 GND, 6 CT, 7 VOUT, 8 VOUT, 9 PAD

## TPS54620RGYR
designator U?
IC REG BUCK ADJUSTABLE 6A 14VQFN; Manufacturer: Texas Instruments; Manufacturer Part Number: TPS54620RGYR; Supplier 1: Digi-Key; Supplier Part Number 1: 296-24554-1-ND
footprint 14-VFQFN-(TPS54620RGYR)
pins: 1 RT/CLK, 2 GND, 3 GND, 4 PVIN, 5 PVIN, 6 VIN, 7 VSENSE, 8 COMP, 9 SS/TR, 10 EN, 11 PH, 12 PH, 13 BOOT, 14 PWRGD, 15 PwPAD

## TPS259540DSGT
designator U?
IC PWR MGMT EFUSE 2.7-18V 8WSON; Manufacturer: Texas Instruments; Manufacturer Part Number: TPS259540DSGT; Supplier 1: Digi-Key; Supplier Part Number 1: 296-47957-1-ND
footprint SON127P600-8N_TPS259540DSGT
pins: 1 dVdt, 2 ~{EN}/UVLO, 3 IN, 4 IN, 5 OUT, 6 ~{FLT}, 7 ILM, 8 GND, 9 PGND

## TS555
designator T?, comment TS555IDTTR
555 Type, Timer/Oscillator (Single) IC 2.7MHz 8-SO; Manufacturer: STMicroelectronics; Manufacturer Part Number: TS555IDTTR; Supplier 1: Digi-Key; Supplier Part Number 1: 497-16404-1-ND
footprint SOIC127P600X175-(TS555) (SOIC, 8-Leads, Body 4,90x3,90mm, Pitch 1,27mm, IPC Medium Density)
pins: 1 GND, 2 Trig, 3 Output, 4 Reset, 5 ConV, 6 Thresh, 7 Disch, 8 Vcc

## VDG1S-06H-R
designator U?
SPST 6 2.54mm, Full Slide (Standard) Red VDG1S-06H-R DIP Switches RoHS; Manufacturer: Cixi Tonver Elec; Manufacturer Part Number: VDG1S-06H-R; Supplier 1: lcsc.com; Supplier Part Number 1: C3662
footprint DIP_SW12
pins: 1, 2, 3, 4, 5, 6, 7, 8, 9, 10, 11, 12
text: ON

## WSLP1206R001
designator R?, comment 10mR
10 mOhms ±1% 1W Chip Resistor 1206 (3216 Metric) Anti-Sulfur, Automotive AEC-Q200, Current Sense, Moisture Resistant, Pulse Withstanding Metal Element; Manufacturer: Vishay Dale; Manufacturer Part Number: WSLP1206R0100FEA; Value: 10mR; Tolarance: 1%; Supplier 1: Digi-Key; Supplier Part Number 1: WSLP-.01CT-ND
footprint WSLP1206R001 (Chip Resistor, 2-Leads, Body 3,20x1,60mm, IPC Medium Density)
pins: 1, 2

## WSLP1206R002
designator R?, comment 20mR
20 mOhms ±1% 1W Chip Resistor 1206 (3216 Metric) Anti-Sulfur, Automotive AEC-Q200, Current Sense, Moisture Resistant, Pulse Withstanding Metal Element; Manufacturer: Vishay Dale; Manufacturer Part Number: WSLP1206R0200FEA; Value: 20mR; Tolarance: 1%; Supplier 1: Digi-Key; Supplier Part Number 1: WSLP-.02CT-ND
footprint WSLP1206R002 (Chip Resistor, 2-Leads, Body 3,20x1,60mm, IPC Medium Density)
pins: 1, 2